# Altium footprint library motorola-sensor-driver.PCBLIB: 16 footprints
Each footprint in its own frame and in the unit in brackets; x right, y up, seen from the top. Pads: shape width x height; smd on the part's side, far side on the other; paste and mask are expansions set on the pad; w line width, h text height; cw(c..) or ccw(c..) is an arc to the next point about the centre after c.
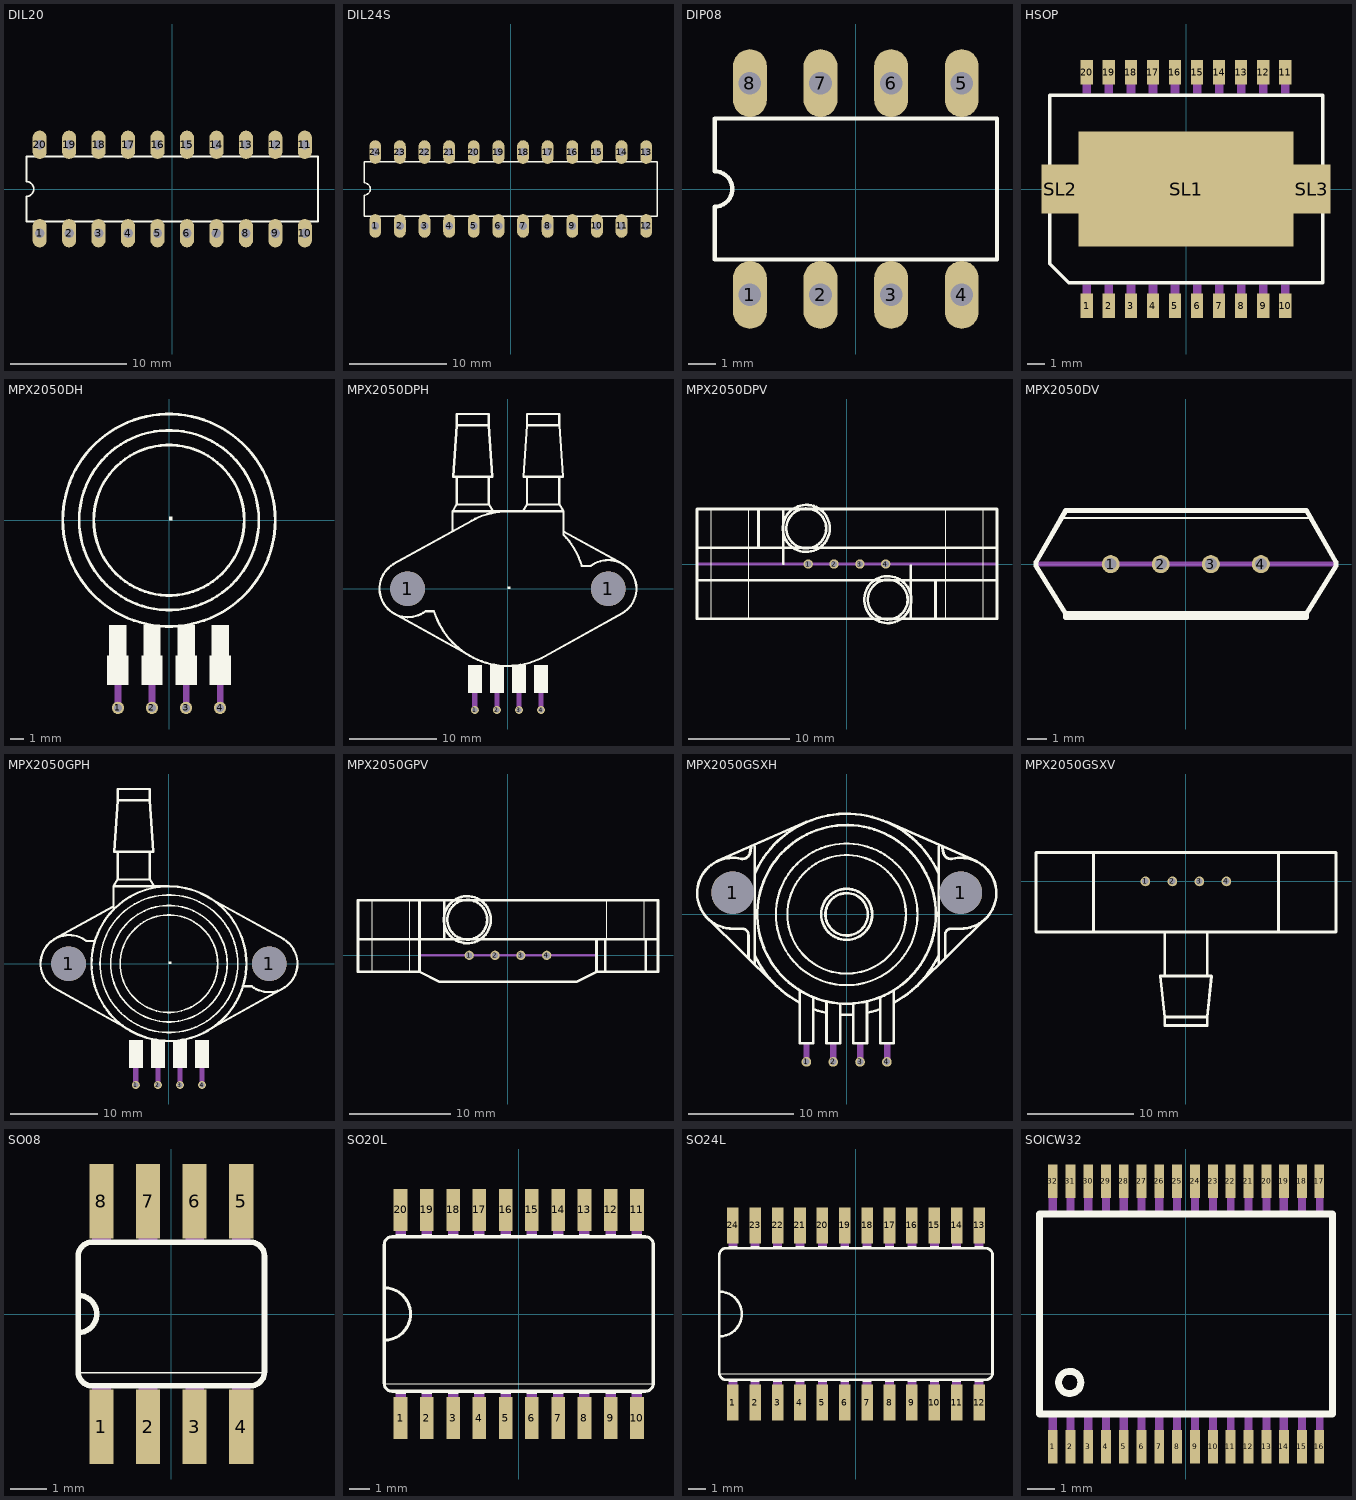
[diagram p0: the footprints below, top view; thin cyan lines are the x and y axes]

## DIL20 [mil]
pads (20):
  oval 48x96 hole 32: 1(-450,-150) 2(-350,-150) 3(-250,-150) 4(-150,-150) 5(-50,-150) 6(50,-150) 7(150,-150) 8(250,-150) 9(350,-150) 10(450,-150) 11(450,150) 12(350,150) 13(250,150) 14(150,150) 15(50,150) 16(-50,150) 17(-150,150) 18(-250,150) 19(-350,150) 20(-450,150)
Top Overlay:
  lines w6: -495,-110 -495,-25 ccw(c-495,0) -495,25 -495,110 495,110 495,-110 -495,-110

## DIL24S [mil]
pads (24):
  oval 48x96 hole 32: 1(-550,-150) 2(-450,-150) 3(-350,-150) 4(-250,-150) 5(-150,-150) 6(-50,-150) 7(50,-150) 8(150,-150) 9(250,-150) 10(350,-150) 11(450,-150) 12(550,-150) 13(550,150) 14(450,150) 15(350,150) 16(250,150) 17(150,150) 18(50,150) 19(-50,150) 20(-150,150) 21(-250,150) 22(-350,150) 23(-450,150) 24(-550,150)
Top Overlay:
  lines w6: -595,-110 -595,-25 ccw(c-595,0) -595,25 -595,110 595,110 595,-110 -595,-110

## DIP08 [mil]
pads (8):
  oval 48x96 hole 32: 1(-150,-150) 2(-50,-150) 3(50,-150) 4(150,-150) 5(150,150) 6(50,150) 7(-50,150) 8(-150,150)
Top Overlay:
  lines w6: -200,-100 -200,-25 ccw(c-200,0) -200,25 -200,100 200,100 200,-100 -200,-100

## HSOP [mil]
pads (23):
  rect 28x56 smd: 1(-225,-265) 2(-175,-265) 3(-125,-265) 4(-75,-265) 5(-25,-265) 6(25,-265) 7(75,-265) 8(125,-265) 9(175,-265) 10(225,-265) 11(225,265) 12(175,265) 13(125,265) 14(75,265) 15(25,265) 16(-25,265) 17(-75,265) 18(-125,265) 19(-175,265) 20(-225,265)
  rect 487x260 smd: SL1(0,0)
  rect 85x111 smd: SL2(-285,0) SL3(285,0)
Top Overlay:
  lines w8: -309.06,-169.29 -309.06,213 310,213 310,-212.6 -265.75,-212.6 -309.06,-169.29
Mechanical 16:
  rectangle: -234.84,-279.53 -215.16,-216.54
  rectangle: -184.84,-279.53 -165.16,-216.54
  rectangle: -134.84,-279.53 -115.16,-216.54
  rectangle: -84.84,-279.53 -65.16,-216.54
  rectangle: -34.84,-279.53 -15.16,-216.54
  rectangle: 16,-279.53 35,-216.54
  rectangle: 66,-279.53 85,-216.54
  rectangle: 116,-279.53 135,-216.54
  rectangle: 166,-279.53 185,-216.54
  rectangle: 216,-279.53 235,-216.54
  region: 235,280 216,280 216,217 235,217
  region: 185,280 166,280 166,217 185,217
  region: 135,280 116,280 116,217 135,217
  region: 85,280 66,280 66,217 85,217
  region: 35,280 16,280 16,217 35,217
  region: -15.16,280 -34.84,280 -34.84,217 -15.16,217
  region: -65.16,280 -84.84,280 -84.84,217 -65.16,217
  region: -115.16,280 -134.84,280 -134.84,217 -115.16,217
  region: -165.16,280 -184.84,280 -184.84,217 -165.16,217
  region: -215.16,280 -234.84,280 -234.84,217 -215.16,217

## MPX2050DH [mil]
pads (4):
  round 36 hole 24: 1(-150,-551.18) 2(-50,-551.18) 3(50,-551.18) 4(150,-551.18)
Top Overlay:
  circle w8: c0,0 r312
  circle w8: c0,0 r264
  circle w8: c0,0 r221
  rectangle: -181.5,-484.25 -118.5,-397.64
  rectangle: -81.5,-484.25 -18.5,-397.64
  rectangle: 19,-484.25 82,-397.64
  rectangle: 119,-484.25 182,-397.64
  rectangle: -175.59,-409.45 -124.41,-307.09
  rectangle: -75.59,-409.45 -24.41,-307.09
  rectangle: 25,-409.45 76,-307.09
  rectangle: 125,-409.45 176,-307.09
  region: 0,0 10,0 10,10 0,10
  region: 0,0 10,0 10,10 0,10
Mechanical 16:
  rectangle: -159.84,-551.18 -140.16,-324.8
  rectangle: -59.84,-551.18 -40.16,-324.8
  rectangle: 41,-551.18 60,-324.8
  rectangle: 141,-551.18 160,-324.8

## MPX2050DPH [mil]
pads (6):
  round 158 hole 158: 1(-454.92,0) 1(455,0)
  round 36 hole 24: 1(-150,-550) 2(-50,-550) 3(50,-550) 4(150,-550)
Top Overlay:
  rectangle: 119,-472.44 182,-346.46
  rectangle: 19,-472.44 82,-346.46
  rectangle: -81.5,-472.44 -18.5,-346.46
  rectangle: -181.5,-472.44 -118.5,-346.46
  region: 0,0 10,0 10,10 0,10
  region: 0,0 10,0 10,10 0,10
  lines w10: -519.68,-110.24 -165.35,-307.09 ; -251.97,260 -251.97,351 -3.94,351 ; -248.03,355 -232.28,382 ; -70.87,355 -86.61,382 ; 0,351 ccw(c2.81,0.76) -165.35,308 -519.68,111 ccw(c-452.78,0.27) -374.02,-102.36 -334.65,-102.36 ccw(c0.46,0) 0,-350.39 ccw(c-3.1,1.28) 166,-307.09 520,-110.24 ccw(c453.42,0.41) 375,103 335,103 ccw(c-0.36,2.24) 252,245 252,260 ; 4,351 252,351 252,260 ; 71,355 87,382 ; 249,355 233,382 ; 520,111 252,260 ; -232.28,382 -86.61,382 ; -232.28,382 -232.28,508 ; -232.28,508 -86.61,508 ; -232.28,508 -248.03,508 -232.28,741 ; -232.28,741 -86.61,741 ; -232.28,741 -232.28,792 -86.61,792 -86.61,741 ; -86.61,382 -86.61,508 ; -86.61,508 -70.87,508 -86.61,741 ; 87,382 233,382 ; 87,382 87,508 ; 87,508 71,508 87,741 ; 87,508 233,508 ; 87,741 233,741 ; 87,741 87,792 233,792 233,741 ; 233,382 233,508 ; 233,508 249,508 233,741
Mechanical 16:
  lines w24: -150,-550 -150,-450 ; -50,-550 -50,-450 ; 50,-550 50,-450 ; 150,-550 150,-450

## MPX2050DPV [mil]
pads (4):
  round 36 hole 24: 1(-150,0) 2(-50,0) 3(50,0) 4(150,0)
Top Overlay:
  circle w10: c-157.48,138 r77
  circle w10: c-157.48,138 r91
  circle w10: c158,-137.8 r77
  circle w10: c158,-137.8 r91
  lines w4: -527.56,-210.63 -527.56,209 ; -381.89,-210.63 -381.89,209 ; 382,-208.66 382,211 ; 528,-208.66 528,211
  lines w10: -576.77,-62.99 247,-62.99 ; -576.77,63 -342.52,63 ; -246.06,2 -246.06,63 ; -246.06,67 -246.06,209 ; 247,-208.66 247,-66.93 ; 247,-5.91 247,-62.99 ; 343,-208.66 343,-62.99 ; 577,-62.99 343,-62.99 ; 577,63 -246.06,63 ; -342.52,63 -246.06,63 ; -342.52,63 -342.52,213 ; -342.52,213 -580.71,213 -580.71,-212.6 581,-212.6 581,213 -342.52,213 ; 247,-62.99 343,-62.99
Mechanical 16:
  lines w10: -576.77,0 575,0

## MPX2050DV [mil]
pads (4):
  round 36 hole 24: 1(-150,0) 2(-50,0) 3(50,0) 4(150,0)
Top Overlay:
  lines w4: -245.16,92 246,92
  lines w10: -240.16,-98.43 -240.16,-106.3 241,-106.3 241,-98.43 ; -240.16,-98.43 -299.21,-3.94 -299.21,4 -240.16,107 241,107 300,4 300,-3.94 241,-98.43 ; -240.16,-98.43 241,-98.43
Mechanical 16:
  lines w10: -295.28,0 296,0

## MPX2050GPH [mil]
pads (6):
  round 158 hole 158: 1(-454.92,0) 1(455,0)
  round 36 hole 24: 1(-150,-550) 2(-50,-550) 3(50,-550) 4(150,-550)
Top Overlay:
  circle w10: c0,0 r351
  circle w8: c0,0 r312
  circle w8: c0,0 r264
  circle w8: c0,0 r221
  rectangle: 119,-472.44 182,-346.46
  rectangle: 19,-472.44 82,-346.46
  rectangle: -81.5,-472.44 -18.5,-346.46
  rectangle: -181.5,-472.44 -118.5,-346.46
  region: 0,0 10,0 10,10 0,10
  region: 0,0 10,0 10,10 0,10
  lines w10: -519.68,111 -251.97,260 ; -248.03,355 -232.28,382 ; -70.87,355 -86.61,382 ; -3.94,351 -251.97,351 -251.97,260 ; 0,351 cw(c-2.49,-0.52) 166,308 520,111 cw(c453.43,0.29) 375,-102.36 335,-102.36 cw(c-0.29,0.24) 0,-350.39 cw(c3.42,0) -165.35,-307.09 -519.68,-110.24 cw(c-452.77,0.43) -374.02,103 -334.65,103 cw(c0.55,2.9) -251.97,245 -251.97,260 ; 166,-307.09 520,-110.24 ; -232.28,382 -86.61,382 ; -232.28,382 -232.28,508 ; -232.28,508 -86.61,508 ; -232.28,508 -248.03,508 -232.28,741 ; -232.28,741 -86.61,741 ; -232.28,741 -232.28,792 -86.61,792 -86.61,741 ; -86.61,382 -86.61,508 ; -86.61,508 -70.87,508 -86.61,741
Mechanical 16:
  lines w24: -150,-550 -150,-450 ; -50,-550 -50,-450 ; 50,-550 50,-450 ; 150,-550 150,-450

## MPX2050GPV [mil]
pads (4):
  round 36 hole 24: 1(-150,0) 2(-50,0) 3(50,0) 4(150,0)
Top Overlay:
  circle w10: c-157.48,138 r77
  circle w10: c-157.48,138 r91
  lines w4: -527.56,-61.02 -527.56,209 ; -381.89,-62.99 -381.89,209 ; 382,67 382,211 ; 528,65 528,211
  lines w10: -576.77,63 -342.52,63 ; -246.06,67 -246.06,209 ; 343,62 343,0 343,-62.99 ; 534,-59.06 534,62 ; 579,63 376,63 ; -342.52,-62.99 -381.89,-62.99 -580.71,-62.99 -580.71,213 -342.52,213 ; -342.52,-62.99 -342.52,0 -342.52,63 ; -342.52,-62.99 -265.75,-102.36 266,-102.36 343,-62.99 ; -342.52,63 376,63 ; -342.52,63 -342.52,213 ; -342.52,213 581,213 581,-62.99 376,-62.99 ; 343,-62.99 376,-62.99 ; 376,-62.99 376,63
Mechanical 16:
  lines w10: -342.52,0 343,0

## MPX2050GSXH [mil]
pads (6):
  round 158 hole 158: 1(-425.2,81) 1(426,81)
  round 36 hole 24: 1(-150,-550) 2(-50,-550) 3(50,-550) 4(150,-550)
Top Overlay:
  circle w8: c0,0 r264
  circle w8: c0,0 r221
  circle w10: c0,0 r333
  circle w10: c0,0 r95
  circle w10: c0,0 r79
  lines w10: -517.72,-15.75 -263.78,-265.75 ; -480.31,199 -149.61,345 ; -425.2,-53.15 -391.73,-53.15 ; -423.23,-53.15 cw(c-425.2,78.92) -425.2,211 cw(c-425.95,79.08) -393.7,207 ccw(c-388.62,235.72) -360.24,229 -356.3,250 ; -389.76,-53.15 cw(c-389.76,-76.77) -366.14,-76.77 -366.14,-161.42 ; -342.52,-187.01 -342.52,252 ; -342.52,-151.57 ccw(c-0.98,3.39) -175.2,-328.74 ; -340.55,156 cw(c0.33,0.35) 343,152 ; -175.2,-285.43 -175.2,-480.31 -124.02,-480.31 -124.02,-311.02 ; -122.05,-354.33 ccw(c-5.43,0) -76.77,-366.14 ; -75.2,-326.77 -75.2,-480.31 -24.02,-480.31 -24.02,-336.61 ; -23.62,-374.02 ccw(c0.19,2.99) 24,-374.02 ; 25,-334.65 25,-480.31 76,-480.31 76,-326.77 ; 77,-366.14 ccw(c6.03,5.76) 123,-354.33 ; 125,-311.02 125,-480.31 176,-480.31 176,-285.43 ; 150,345 481,199 ; 176,-328.74 ccw(c1.63,2.92) 343,-151.57 ; 264,-265.75 518,-15.75 ; 343,-187.01 343,252 ; 357,250 361,229 ccw(c389.15,235.47) 394,207 cw(c426.5,77) 426,211 cw(c425.99,78.92) 424,-53.15 ; 367,-161.42 367,-76.77 cw(c390.31,-76.46) 390,-53.15 ; 392,-53.15 426,-53.15
Mechanical 16:
  rectangle: -161.42,-549.21 -137.8,-482.28
  rectangle: -61.42,-549.21 -37.8,-482.28
  rectangle: 39,-549.21 63,-482.28
  rectangle: 139,-549.21 163,-482.28

## MPX2050GSXV [mil]
pads (4):
  round 36 hole 24: 1(-150,0) 2(-50,0) 3(50,0) 4(150,0)
Top Overlay:
  lines w10: -342.52,105 -342.52,-187.01 ; -78.74,-346.46 -78.74,-188.98 ; 79,-348.43 79,-188.98 ; 343,105 343,-187.01 ; -342.52,-187.01 343,-187.01 ; -342.52,-187.01 -555.12,-187.01 -555.12,107 556,107 556,-187.01 343,-187.01 ; -78.74,-501.97 -78.74,-533.46 79,-533.46 79,-501.97 ; -78.74,-501.97 79,-501.97 ; -78.74,-501.97 -94.49,-350.39 95,-350.39 79,-501.97

## SO08 [mil]
pads (8):
  rect 26x80 smd: 1(-75,-121) 2(-25,-121) 3(25,-121) 4(75,-121) 5(75,121) 6(25,121) 7(-25,121) 8(-75,121)
Top Overlay:
  lines w2: -100,-63 100,-63
  lines w6: -100,-20 ccw(c-100,0) -100,20 ; -100,-62 ccw(c-85,-62) -85,-77 85,-77 ccw(c85,-62) 100,-62 100,62 ccw(c85,62) 85,77 -85,77 ccw(c-85,62) -100,62 -100,-62
Mechanical 16:
  rectangle: 65,77 85,122
  rectangle: -85,-122 -65,-77
  rectangle: -35,-122 -15,-77
  rectangle: 15,-121 35,-76
  rectangle: 65,-122 85,-77
  rectangle: 15,77 35,122
  rectangle: -35,77 -15,122
  rectangle: -85,77 -65,122

## SO20L [mil]
pads (20):
  rect 26x80 smd: 1(-225,-198) 2(-175,-198) 3(-125,-198) 4(-75,-198) 5(-25,-198) 6(25,-198) 7(75,-198) 8(125,-198) 9(175,-198) 10(225,-198) 11(225,198) 12(175,198) 13(125,198) 14(75,198) 15(25,198) 16(-25,198) 17(-75,198) 18(-125,198) 19(-175,198) 20(-225,198)
Top Overlay:
  rectangle: -235,-152 -215,-147
  rectangle: -185,-152 -165,-147
  rectangle: -135,-152 -115,-147
  rectangle: -85,-152 -65,-147
  rectangle: -35,-152 -15,-147
  rectangle: 15,-152 35,-147
  rectangle: 65,-152 85,-147
  rectangle: 115,-152 135,-147
  rectangle: -235,147 -215,152
  rectangle: -185,147 -165,152
  rectangle: -135,147 -115,152
  rectangle: -85,147 -65,152
  rectangle: -35,147 -15,152
  rectangle: 15,147 35,152
  rectangle: 65,147 85,152
  rectangle: 115,147 135,152
  rectangle: 165,147 185,152
  rectangle: 215,147 235,152
  rectangle: 165,-152 185,-147
  rectangle: 215,-152 235,-147
  lines w2: -255,-133 255,-133
  lines w6: -256,-50 ccw(c-256,0) -256,50 ; -256,-132 ccw(c-241,-132) -241,-147 241,-147 ccw(c241,-132) 256,-132 256,132 ccw(c241,132) 241,147 -241,147 ccw(c-241,132) -256,132 -256,-132
Mechanical 16:
  rectangle: -235,-210 -215,-152
  rectangle: -185,-210 -165,-152
  rectangle: -135,-210 -115,-152
  rectangle: -85,-210 -65,-152
  rectangle: -35,-210 -15,-152
  rectangle: 15,-210 35,-152
  rectangle: 65,-210 85,-152
  rectangle: 115,-210 135,-152
  rectangle: -235,152 -215,210
  rectangle: -185,152 -165,210
  rectangle: -135,152 -115,210
  rectangle: -85,152 -65,210
  rectangle: -35,152 -15,210
  rectangle: 15,152 35,210
  rectangle: 65,152 85,210
  rectangle: 115,152 135,210
  rectangle: 165,152 185,210
  rectangle: 215,152 235,210
  rectangle: 165,-210 185,-152
  rectangle: 215,-210 235,-152

## SO24L [mil]
pads (24):
  rect 26x80 smd: 1(-275,-198) 2(-225,-198) 3(-175,-198) 4(-125,-198) 5(-75,-198) 6(-25,-198) 7(25,-198) 8(75,-198) 9(125,-198) 10(175,-198) 11(225,-198) 12(275,-198) 13(275,198) 14(225,198) 15(175,198) 16(125,198) 17(75,198) 18(25,198) 19(-25,198) 20(-75,198) 21(-125,198) 22(-175,198) 23(-225,198) 24(-275,198)
Top Overlay:
  rectangle: -285,-152 -265,-147
  rectangle: -235,-152 -215,-147
  rectangle: -185,-152 -165,-147
  rectangle: -135,-152 -115,-147
  rectangle: -85,-152 -65,-147
  rectangle: -35,-152 -15,-147
  rectangle: 15,-152 35,-147
  rectangle: 65,-152 85,-147
  rectangle: -285,147 -265,152
  rectangle: -235,147 -215,152
  rectangle: -185,147 -165,152
  rectangle: -135,147 -115,152
  rectangle: -85,147 -65,152
  rectangle: -35,147 -15,152
  rectangle: 15,147 35,152
  rectangle: 65,147 85,152
  rectangle: 115,147 135,152
  rectangle: 165,147 185,152
  rectangle: 215,147 235,152
  rectangle: 265,147 285,152
  rectangle: 115,-152 135,-147
  rectangle: 165,-152 185,-147
  rectangle: 215,-152 235,-147
  rectangle: 265,-152 285,-147
  lines w2: -305,-133 305,-133
  lines w6: -305,-50 ccw(c-305,0) -305,50 ; -305,-132 ccw(c-290,-132) -290,-147 290,-147 ccw(c290,-132) 305,-132 305,132 ccw(c290,132) 290,147 -290,147 ccw(c-290,132) -305,132 -305,-132
Mechanical 16:
  rectangle: -285,-210 -265,-152
  rectangle: -235,-210 -215,-152
  rectangle: -185,-210 -165,-152
  rectangle: -135,-210 -115,-152
  rectangle: -85,-210 -65,-152
  rectangle: -35,-210 -15,-152
  rectangle: 15,-210 35,-152
  rectangle: 65,-210 85,-152
  rectangle: -285,152 -265,210
  rectangle: -235,152 -215,210
  rectangle: -185,152 -165,210
  rectangle: -135,152 -115,210
  rectangle: -85,152 -65,210
  rectangle: -35,152 -15,210
  rectangle: 15,152 35,210
  rectangle: 65,152 85,210
  rectangle: 115,152 135,210
  rectangle: 165,152 185,210
  rectangle: 215,152 235,210
  rectangle: 265,152 285,210
  rectangle: 115,-210 135,-152
  rectangle: 165,-210 185,-152
  rectangle: 215,-210 235,-152
  rectangle: 265,-210 285,-152

## SOICW32 [mil]
pads (32):
  rect 14x48 smd: 1(-191.93,-190.94) 2(-166.34,-190.94) 3(-140.75,-190.94) 4(-115.16,-190.94) 5(-89.57,-190.94) 6(-63.98,-190.94) 7(-38.39,-190.94) 8(-12.8,-190.94) 9(13,-190.94) 10(39,-190.94) 11(64,-190.94) 12(90,-190.94) 13(116,-190.94) 14(141,-190.94) 15(167,-190.94) 16(192,-190.94) 17(192,191) 18(167,191) 19(141,191) 20(116,191) 21(90,191) 22(64,191) 23(39,191) 24(13,191) 25(-12.8,191) 26(-38.39,191) 27(-63.98,191) 28(-89.57,191) 29(-115.16,191) 30(-140.75,191) 31(-166.34,191) 32(-191.93,191)
Top Overlay:
  circle w10: c-167.32,-98.43 r16
  lines w10: -210.63,-143.7 211,-143.7 211,144 -210.63,144 -210.63,-143.7
Mechanical 16:
  rectangle: -197.83,-202.76 -186.02,-147.64
  rectangle: -172.24,-202.76 -160.43,-147.64
  rectangle: -146.65,-202.76 -134.84,-147.64
  rectangle: -121.06,-202.76 -109.25,-147.64
  rectangle: -95.47,-202.76 -83.66,-147.64
  rectangle: -69.88,-202.76 -58.07,-147.64
  rectangle: -44.29,-202.76 -32.48,-147.64
  rectangle: -18.7,-202.76 -6.89,-147.64
  rectangle: 7,-202.76 19,-147.64
  rectangle: 33,-202.76 45,-147.64
  rectangle: 59,-202.76 70,-147.64
  rectangle: 84,-202.76 96,-147.64
  rectangle: 110,-202.76 122,-147.64
  rectangle: 135,-202.76 147,-147.64
  rectangle: 161,-202.76 173,-147.64
  rectangle: 187,-202.76 198,-147.64
  rectangle: 187,148 198,203
  rectangle: 161,148 173,203
  rectangle: 135,148 147,203
  rectangle: 110,148 122,203
  rectangle: 84,148 96,203
  rectangle: 59,148 70,203
  rectangle: 33,148 45,203
  rectangle: 7,148 19,203
  rectangle: -18.7,148 -6.89,203
  rectangle: -44.29,148 -32.48,203
  rectangle: -69.88,148 -58.07,203
  rectangle: -95.47,148 -83.66,203
  rectangle: -121.06,148 -109.25,203
  rectangle: -146.65,148 -134.84,203
  rectangle: -172.24,148 -160.43,203
  rectangle: -197.83,148 -186.02,203